# Altium schematic symbol library NX_Module devkit.SchLib: 44 symbols
Pins are listed as number, name and electrical type; pins without a type are passive.

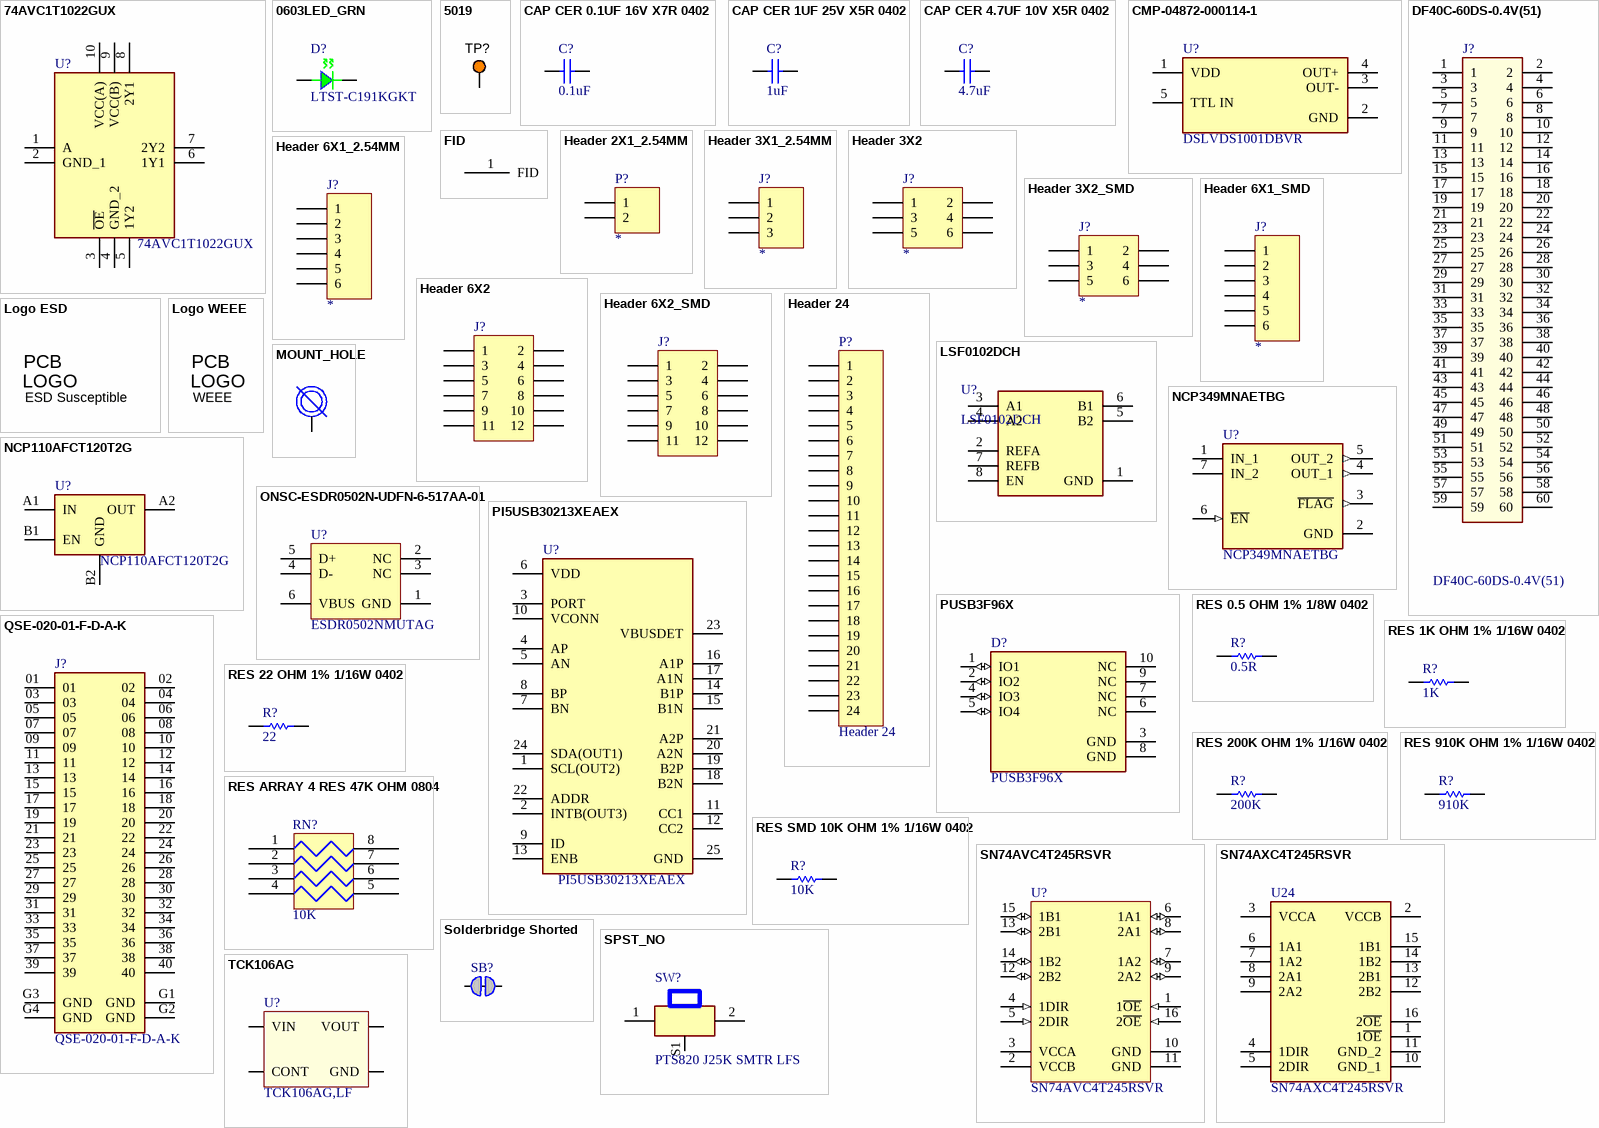
[diagram p0: symbols 74AVC1T1022GUX to TCK106AG]

## 74AVC1T1022GUX
designator U?
Integrated Circuit; Manufacturer_Name: Nexperia; Datasheet Link: https://assets.nexperia.com/documents/data-sheet/74AVC1T1022.pdf; Height: 0.5mm; Manufacturer_Part_Number: 74AVC1T1022GUX; Arrow Part Number: 74AVC1T1022GUX; Arrow Price/Stock: https://www.arrow.com/en/products/74avc1t1022gux/nexperia; Mouser Part Number: 771-74AVC1T1022GUX; Mouser Price/Stock: https://www.mouser.co.uk/ProductDetail/Nexperia/74AVC1T1022GUX?qs=gH1BdSMZm8XHZ1qAC1cnRA%3D%3D
footprint QFN40P140X180X50-10N
pins: 1 A, 2 GND_1, 3 ~{OE}, 4 GND_2, 5 1Y2, 6 1Y1, 7 2Y2, 8 2Y1, 9 VCC(B), 10 VCC(A)

## 0603LED_GRN
designator D?, comment LTST-C191KGKT
LED GREEN CLEAR CHIP 0603 SMD; Manufacturer: Lite-On Inc.; Manufacturer Part Number: LTST-C191GKT; Unit Cost, Qty 1: $0.68; Unit Cost, Qty 500: $0.293; Supplier Part Number 1: 160-1443-1-ND; Value: LTST-C191KGKT; Supplier 1: Digi-Key
footprint LED_0603
pins: 1 A, 2 K

## 5019
designator TP?  (value not drawn)
PC TEST POINT MINIATURE; Manufacturer: Keystone Electronics; Supplier Part Number 1: 36-5019CT-ND; Manufacturer Part Number: 5019; ComponentLink2URL: http://keyelco.com/userAssets/file/M65p56.pdf; Supplier 1: Digi-Key; ComponentLink1Description: Manufacturer URL; ComponentLink1URL: http://www.keyelco.com/; ComponentLink2Description: Datasheet
footprint TP380X203
pins: 1

## CAP CER 0.1UF 16V X7R 0402
designator C?, comment 0.1uF
CAP CER 0.1UF 16V X7R 0402; Manufacturer Part Number: CGA2B1X7R1C104K050BC; Manufacturer: TDK Corporation; Supplier Part Number 1: 445-5613-2-ND; Package: 0402; Height: 0.55mm; Supplier 1: Digi-Key; value: 0.1uF
footprint CAPC1005X55USR (Capacitor, Chip; 1.00 mm L X 0.50 mm W X 0.55 mm H body)
pins: 1, 2

## CAP CER 1UF 25V X5R 0402
designator C?, comment 1uF
CAP CER 1UF 25V X5R 0402; Manufacturer Part Number: GRM155R61E105MA12D; Manufacturer: Murata Electronics; Part #: E-CAP-042; value: 1uF; Supplier Part Number 1: 490-10018-1-ND; Package: 0402; Supplier 1: Digi-Key; Height: 0.55mm; ComponentLink1Description: New link; ComponentLink1URL: *
footprint CAPC1005X55USR (Capacitor, Chip; 1.00 mm L X 0.50 mm W X 0.55 mm H body)
pins: 1, 2

## CAP CER 4.7UF 10V X5R 0402
designator C?, comment 4.7uF
CAP CER 4.7UF 10V X5R 0402; Manufacturer Part Number: C1005X5R1A475M050BC; Manufacturer: TDK Corporation; Supplier Part Number 1: 445-8023-1-ND; Package: 0402; value: 4.7uF; Supplier 1: Digi-Key; Height: 0.55mm; ComponentLink1Description: New link; ComponentLink1URL: *
footprint CAPC1005X55USR (Capacitor, Chip; 1.00 mm L X 0.50 mm W X 0.55 mm H body)
footprint CAPC100X50X60L25N
footprint CAPC1005X55USR (Capacitor, Chip; 1.00 mm L X 0.50 mm W X 0.55 mm H body)
footprint CAPC1005X55USR (Capacitor, Chip; 1.00 mm L X 0.50 mm W X 0.55 mm H body)
footprint CAPC1005X55USR (Capacitor, Chip; 1.00 mm L X 0.50 mm W X 0.55 mm H body)
pins: 1, 2

## CMP-04872-000114-1
designator U?, comment DSLVDS1001DBVR
IC DRIVER 1/0 SOT23-5; RoHS Compliant: No
footprint FP-DBV0005A-IPC_C
footprint FP-DBV0005A-IPC_A
footprint FP-DBV0005A-IPC_B
footprint FP-DBV0005A-MFG
pins: 1 VDD (power), 2 GND (power), 3 OUT-, 4 OUT+, 5 TTL IN (hiz)

## DF40C-60DS-0.4V(51)
designator J?
CONN RCPT 60POS SMD GOLD; Manufacturer: Hirose; Connector Type: Receptacle; Number of Positions: 60; Current Rating: 300mA; Voltage Rating: 30V; Pitch: 0.4mm; Mated Stacking Heights: 1.5mm; Supplier 1: Digi-Key; Supplier Part Number 1: 26-DF40C-60DS-0.4V(51)CT-ND; Manufacturer Part Number: DF40C-60DS-0.4V(51); RoHS: Yes; Category: Headers and Wire Housings; Stock: 11621; Pricing: 1=1.29000, 10=1.08900, 25=1.04440, 50=1.02220, 100=0.97770, 250=0.88880, 500=0.79992, 1000=0.71104, 2500=0.64438 (USD); Mounting Technology: Surface Mount; Contact Plating: Gold; Contact Material: Bronze; Housing Material: Polymer; Package Quantity: 5000; Number of Rows: 2; Packaging: Tape and Reel; Series: DF40; Termination: SMD/SMT; Number of Contacts: 60; Gender: Receptacle; RoHS Compliant: Yes; Lead Free: Lead Free; Reach SVHC Compliant: No; ComponentLink1URL: https://datasheet.ciiva.com/46408/1824826-46408909.pdf?src-supplier=Element14; ComponentLink1Description: https://datasheet.ciiva.com/46408/1824826-46408909.pdf?src-supplier=Element14
footprint DF40C60DS04V51
pins: 1, 2, 3, 4, 5, 6, 7, 8, 9, 10, 11, 12, 13, 14, 15, 16, 17, 18, 19, 20, 21, 22, 23, 24, 25, 26, 27, 28, 29, 30, 31, 32, 33, 34, 35, 36, 37, 38, 39, 40, 41, 42, 43, 44, 45, 46, 47, 48, 49, 50, 51, 52, 53, 54, 55, 56, 57, 58, 59, 60

## FID
designator FID?  (no BOM)
Notes: DNP
footprint FID_040
footprint FID-040
pins: 1 FID

## Header 2X1_2.54MM
designator P?
Conn Header Vert 2POS 2.54MM; Manufacturer: Sullins; Manufacturer Part Number: PRPC002SAAN-RC; Number of Positions: 2; Pitch: 0.1inch; Supplier 1: Digi-Key; Supplier Part Number 1: S1011EC-02-ND; RoHS: Yes; Category: Connectors; Stock: 31528; Pricing: 1=0.08000, 10=0.07300, 25=0.05400, 50=0.04640, 100=0.04490, 250=0.03872, 500=0.03716 (USD); Mounting Technology: Through Hole; Color: Black; Contact Plating: Gold; Package Quantity: 1; Number of Rows: 1; Packaging: Bulk; Termination: Solder; Series: -; Contact Type: Male Pin; Contact Mating Length: 0.23inch; RoHS Compliant: Yes; ComponentLink1URL: https://datasheet.ciiva.com/741/xrxczzzsxxn-rc-st-11635-b-741243.pdf?src-supplier=Digi-Key; ComponentLink1Description: https://datasheet.ciiva.com/741/xrxczzzsxxn-rc-st-11635-b-741243.pdf?src-supplier=Digi-Key; Content: *
footprint HDR2X1_MALE_2.54MM
pins: 1, 2

## Header 3X1_2.54MM
designator J?  (value not drawn)
CONN HEADER .100 SNGL STR 3POS; Manufacturer: Sullins; Manufacturer Part Number: PRPC003SAAN-RC; Number of Positions: 3; Pitch: 0.1inch; Supplier 1: Digi-Key; Supplier Part Number 1: S1011EC-03-ND; RoHS: Yes; Category: Connectors; Stock: 16156; Pricing: 1=0.12000, 10=0.10900, 25=0.08120, 50=0.06960, 100=0.06730, 250=0.05804, 500=0.05572 (USD); Mounting Technology: Through Hole; Color: Black; Contact Plating: Gold; Package Quantity: 1; Number of Rows: 1; Packaging: Bulk; Termination: Solder; Series: -; Contact Type: Male Pin; Contact Mating Length: 0.23inch; RoHS Compliant: Yes; ComponentLink1URL: https://datasheet.ciiva.com/741/xrxczzzsxxn-rc-st-11635-b-741242.pdf?src-supplier=Digi-Key; ComponentLink1Description: https://datasheet.ciiva.com/741/xrxczzzsxxn-rc-st-11635-b-741242.pdf?src-supplier=Digi-Key; Content: *
footprint HDR3X1_MALE_2.54MM
pins: 1, 2, 3

## Header 3X2
designator J?  (value not drawn)
2 Row 6 Position 2.54 mm Straight Unshrouded Male Pin Header; Manufacturer: Amphenol Communications Solutions; Manufacturer Part Number: 67997-206HLF; Supplier 1: Digi-Key; Supplier Part Number 1: 609-3234-ND; RoHS: No; Category: Connectors; Stock: 58561; Pricing: 1=0.46000, 10=0.39400, 100=0.30610, 500=0.26236, 1000=0.21864, 5000=0.18741, 10000=0.17491 (USD); ComponentLink1URL: https://datasheet.octopart.com/67997-206HLF-Areva-datasheet-15888151.pdf?src-supplier=Element14; ComponentLink1Description: https://datasheet.octopart.com/67997-206HLF-Areva-datasheet-15888151.pdf?src-supplier=Element14; ComponentLink2URL: https://datasheet.octopart.com/67997-206HLF-Amphenol-Communications-Solutions-datasheet-10288749.pdf?src-supplier=Newark; ComponentLink2Description: https://datasheet.octopart.com/67997-206HLF-Amphenol-Communications-Solutions-datasheet-10288749.pdf?src-supplier=Newark; ComponentLink3URL: https://datasheet.octopart.com/67997-206HLF-Amphenol-Communications-Solutions-datasheet-36854132.pdf?src-supplier=Electro+Sonic; ComponentLink3Description: https://datasheet.octopart.com/67997-206HLF-Amphenol-Communications-Solutions-datasheet-36854132.pdf?src-supplier=Electro+Sonic; Content: *
footprint HDR3X2_MALE_2.54MM
pins: 1, 2, 3, 4, 5, 6

## Header 3X2_SMD
designator J?  (value not drawn)
Conn Unshrouded Header HDR 6 POS 2.54mm Solder ST Top Entry SMD Tube; Manufacturer: Samtec; Manufacturer Part Number: TSM-103-01-L-DV; Number of Positions: 6; Gender: Male; Max Current Rating: 7A; Max Voltage Rating (AC): 475V; Row Spacing: 0.1inch; Supplier 1: Digi-Key; Supplier Part Number 1: SAM10786-ND; RoHS: Yes; Category: Headers and Wire Housings; Stock: 12257; Pricing: 1=1.17000, 10=0.99000, 100=0.88880, 500=0.72720, 1000=0.64640, 5000=0.56560, 10000=0.53732 (USD); Mounting Technology: Surface Mount; Contact Plating: Gold; Contact Material: Bronze; Color: Black; Housing Color: Black; Housing Material: Polymer; Min Operating Temperature: -55°C; Max Operating Temperature: 125°C; Packaging: Rail/Tube; Number of Rows: 2; Termination: Solder; Number of Contacts: 6; Orientation: Straight; Series: TSM; Contact Type: Male Pin; Package Quantity: 1; Current Rating: 7A; Voltage Rating: 475V; Length: 7.62mm; Pitch: 2.54mm; Depth: 7.36mm; Contact Mating Length: 0.23inch; Radiation Hardening: No; Lead Free: Lead Free; RoHS Compliant: Yes; Reach SVHC Compliant: No; ComponentLink1URL: https://datasheet.ciiva.com/25616/0900766b81157e6c-25616863.pdf?src-supplier=Rs; ComponentLink1Description: https://datasheet.ciiva.com/25616/0900766b81157e6c-25616863.pdf?src-supplier=Rs; ComponentLink2URL: https://datasheet.ciiva.com/739/tsm-1xx-xx-xxx-xx-x-xxx-x-mkt-739577.pdf?src-supplier=Digi-Key; ComponentLink2Description: https://datasheet.ciiva.com/739/tsm-1xx-xx-xxx-xx-x-xxx-x-mkt-739577.pdf?src-supplier=Digi-Key; Content: *
footprint HDR3X2_MALE_2.54MM_SAMTEC-A-TSM-103
pins: 1, 2, 3, 4, 5, 6

## Header 6X1_2.54MM
designator J?  (value not drawn)
Single Row 6 Position 2.54 mm Pitch Straight Unshrouded Male Pin Header; Manufacturer: Amphenol Communications Solutions; Manufacturer Part Number: 68000-406HLF; Supplier 1: Digi-Key; Supplier Part Number 1: 609-3263-ND; RoHS: No; Category: Connectors; Stock: 36469; Pricing: 1=0.31000, 10=0.26700, 100=0.20760, 500=0.17796, 1000=0.14829, 5000=0.12711, 10000=0.11864 (USD); ComponentLink1URL: https://datasheet.octopart.com/68000-406HLF-Areva-datasheet-10088795.pdf?src-supplier=Farnell; ComponentLink1Description: https://datasheet.octopart.com/68000-406HLF-Areva-datasheet-10088795.pdf?src-supplier=Farnell; ComponentLink2URL: https://datasheet.octopart.com/68000-406HLF-Amphenol-Communications-Solutions-datasheet-100449246.pdf?src-supplier=Future+Electronics; ComponentLink2Description: https://datasheet.octopart.com/68000-406HLF-Amphenol-Communications-Solutions-datasheet-100449246.pdf?src-supplier=Future+Electronics; ComponentLink3URL: https://datasheet.octopart.com/68000-406HLF-FCI-datasheet-41232361.pdf?src-supplier=Newark; ComponentLink3Description: https://datasheet.octopart.com/68000-406HLF-FCI-datasheet-41232361.pdf?src-supplier=Newark; ComponentLink4URL: https://datasheet.octopart.com/68000-406HLF-Amphenol-Communications-Solutions-datasheet-154727322.pdf?src-supplier=Electro+Sonic; ComponentLink4Description: https://datasheet.octopart.com/68000-406HLF-Amphenol-Communications-Solutions-datasheet-154727322.pdf?src-supplier=Electro+Sonic; ComponentLink5URL: https://datasheet.octopart.com/68000-406HLF-Amphenol-Communications-Solutions-datasheet-168215121.pdf?src-supplier=TME; ComponentLink5Description: https://datasheet.octopart.com/68000-406HLF-Amphenol-Communications-Solutions-datasheet-168215121.pdf?src-supplier=TME; Content: *
footprint HDR6X1_MALE_2.54MM
pins: 1, 2, 3, 4, 5, 6

## Header 6X1_SMD
designator J?  (value not drawn)
SMT Vertical Pin Header WR-PHD, Pitch 2.54 mm, Single Row, 6 pins; Manufacturer: Wurth Electronics; Manufacturer Part Number: 61000618221; Number of Positions: 6; Gender: Male; Voltage Rating: 250V; Pitch: 0.1inch; Supplier 1: Digi-Key; Supplier Part Number 1: 732-5366-5-ND; RoHS: Yes; Category: Connectors; Stock: 3629; Pricing: 1=1.45000, 10=1.22700, 41=1.02293, 82=0.85195, 164=0.77500, 328=0.70500 (USD); Mounting Technology: Surface Mount; Contact Plating: Gold; Contact Material: Copper Alloy,Copper; Color: Black; Contact Shape: Square; Contact Finish - Mating: GOLD; Insulation Material: Nylon; Insulation Color: Black; Min Operating Temperature: -40°C; Max Operating Temperature: 125°C; Number of Rows: 1; Packaging: Rail/Tube; Termination: Solder; Number of Contacts: 6; Connector Type: Header; Fastening Type: Pull; Series: WR-PHD; Contact Type: Male Pin; Contact Mating Length: 0.236inch; Flammability Rating: UL94 V-0; Reach SVHC Compliant: Unknown; ComponentLink1URL: https://katalog.we-online.de/em/datasheet/6100xx18221.pdf?src-supplier=Digi-Key; ComponentLink1Description: https://katalog.we-online.de/em/datasheet/6100xx18221.pdf?src-supplier=Digi-Key; ComponentLink2URL: https://datasheet.octopart.com/61000618221-W%C3%BCrth-Elektronik-datasheet-21154826.pdf?src-supplier=Element14; ComponentLink2Description: https://datasheet.octopart.com/61000618221-W%C3%BCrth-Elektronik-datasheet-21154826.pdf?src-supplier=Element14; Content: *
footprint HDR1X6_SMD_WE_61000
pins: 1, 2, 3, 4, 5, 6

## Header 6X2
designator J?  (value not drawn)
Conn, Header, 12POS, 2ROW, 2.54MM, Th;; Manufacturer: Amphenol Communications Solutions; Manufacturer Part Number: 67997-212HLF; Supplier 1: Digi-Key; Supplier Part Number 1: 609-3237-ND; RoHS: No; Category: Connectors; Stock: 4908; Pricing: 1=1.04000, 10=0.87900, 100=0.78950, 500=0.64594, 1000=0.57416, 5000=0.50239, 10000=0.47727 (USD); ComponentLink1URL: https://datasheet.octopart.com/67997-212HLF-Amphenol-ICC---FCI-datasheet-10288749.pdf?src-supplier=Farnell; ComponentLink1Description: https://datasheet.octopart.com/67997-212HLF-Amphenol-ICC---FCI-datasheet-10288749.pdf?src-supplier=Farnell
footprint HDR6X2_MALE_2.54MM
pins: 1, 2, 3, 4, 5, 6, 7, 8, 9, 10, 11, 12

## Header 6X2_SMD
designator J?  (value not drawn)
Conn Unshrouded Header HDR 12 POS 2.54mm Solder ST Top Entry SMD Tube; Manufacturer: Samtec; Manufacturer Part Number: TSM-106-01-L-DV; Number of Contacts: 12; Gender: Male; Pitch: 0.1inch; Supplier 1: Digi-Key; Supplier Part Number 1: SAM10803-ND; RoHS: Yes; Category: Headers and Wire Housings; Stock: 6386; Pricing: 1=2.21000, 10=1.92300, 100=1.71800, 500=1.43168, 1000=1.22715, 5000=1.08807 (USD); Mounting Technology: Surface Mount; Contact Plating: Gold; Contact Material: Bronze; Contact Shape: Square; Contact Finish - Mating: GOLD; Insulation Material: Polymer; Insulation Color: Black; Color: Black; Min Operating Temperature: -55°C; Max Operating Temperature: 125°C; Number of Rows: 2; Packaging: Rail/Tube; Termination: Solder; Number of Positions: 12; Connector Type: Header; Series: TSM; Contact Type: Male Pin; Fastening Type: Pull; Package Quantity: 1; Row Spacing: 0.1inch; Contact Mating Length: 0.23inch; Radiation Hardening: No; Lead Free: Lead Free; RoHS Compliant: Yes; Flammability Rating: UL94 V-0; Reach SVHC Compliant: No; ComponentLink1URL: https://datasheet.ciiva.com/739/tsm-1xx-xx-xxx-xx-x-xxx-x-mkt-739673.pdf?src-supplier=Digi-Key; ComponentLink1Description: https://datasheet.ciiva.com/739/tsm-1xx-xx-xxx-xx-x-xxx-x-mkt-739673.pdf?src-supplier=Digi-Key
footprint HDR6X2_MALE_2.54MM_SAMTEC-A-TSM-106
pins: 1, 2, 3, 4, 5, 6, 7, 8, 9, 10, 11, 12

## Header 24
designator P?
Header, 24-Pin; LatestRevisionDate: 17-Jul-2002; LatestRevisionNote: Re-released for DXP Platform.; Publisher: Altium Limited
footprint HDR1X24 (Connector; Header; 24 Position)
signal-integrity model Connector
pins: 1, 2, 3, 4, 5, 6, 7, 8, 9, 10, 11, 12, 13, 14, 15, 16, 17, 18, 19, 20, 21, 22, 23, 24

## Logo ESD
designator Logo?, comment ESD Susceptible  (no BOM)
ESD Susceptible Symbol; Library Reference: Logo; SymbolCreator: a0412235; Lib Reference: ESD_Susceptible; Publisher: Texas Instruments; SymbolVersion: 2011-08-22; Published: 2009-03-03; LatestRevisionDate: 2017-07-06; PartNumber: ESD Susceptible
footprint ESD_Overlay_Large
footprint ESD_Overlay_Small
footprint ESD_Overlay_Medium
text: PCB; LOGO

## Logo WEEE
designator Logo?, comment WEEE  (no BOM)
WEEE logo; Library Reference: WEEE logo; Lib Reference: WEEE logo; PartNumber: WEEE logo
footprint WEEE_Minimum
text: PCB; LOGO

## LSF0102DCH
designator U?
LSF0102 - 2-bit bidirectional multi-voltage level translator; open-drain; push-pull; Manufacturer: Nexperia; Supplier 1: Digi-Key; Supplier Part Number 1: 1727-LSF0102DCHCT-ND; Manufacturer Part Number: LSF0102DCH; RoHS: No; Stock: 17270; Pricing: 1=0.66000, 10=0.58200, 25=0.54680, 100=0.44630, 250=0.41452, 500=0.35276, 1000=0.28221 (USD)
footprint VSSOP8_SOT765-1_NEX
pins: 1 GND, 2 REFA, 3 A1, 4 A2, 5 B2, 6 B1, 7 REFB, 8 EN

## MOUNT_HOLE
designator BH?, comment STANDOFF M2.5  (value not drawn)
ROUND STANDOFF M2X0.4 STEEL 1MM; Manufacturer Part Number: 9774010243R; Manufacturer: Würth Elektronik; Supplier Part Number 1: 732-7065-2-ND; Supplier 1: Digi-Key
footprint WE_9774010243R
pins: 1

## NCP110AFCT120T2G
designator U?
LDO Regulator, 200 mA, Low Vin, Ultra-High PSRR 1.2V, Active Discharge; Manufacturer: ON Semiconductor; Supplier 1: Digi-Key; Manufacturer Part Number: NCP110AFCT120T2G; RoHS: Yes; Category: Voltage Regulators - Linear; Stock 1: 4650; Pricing 1: 1=0.41000, 10=0.33100, 25=0.30280, 100=0.22520, 250=0.20412, 500=0.16892, 1000=0.12669, 2500=0.11613 (USD); RoHS Compliant: Yes; Supplier Part Number 1: 488-NCP110AFCT120T2GCT-ND
footprint WLCSP4_P6XP6_ONS
pins: A1 IN, A2 OUT, B1 EN, B2 GND

## NCP349MNAETBG
designator U?
IC CTLR OVP 28V W/NMOS 6-DFN; Manufacturer: ON Semiconductor; Min Supply Voltage: 1.2V; Operating Supply Current: 70uA; Height: 0.95mm; Supplier 1: Digi-Key; Manufacturer Part Number: NCP349MNAETBG; RoHS: Yes; Category: Power Management ICs; Stock 1: 1255; Pricing 1: 1=0.96000, 10=0.84700, 25=0.79520, 100=0.64900, 250=0.60284, 500=0.51304, 1000=0.41043 (USD); Mount: Surface Mount; Case/Package: DFN; Number of Pins: 6; Weight: 0.000744oz; Min Operating Temperature: -40°C; Max Operating Temperature: 85°C; Packaging: Tape and Reel; Package Quantity: 3000; Max Supply Voltage: 28V; Series: -; Length: 2mm; Width: 1.6mm; Reach SVHC Compliant: Yes; Lead Free: Lead Free; Halogen Free: Halogen Free; RoHS Compliant: Yes; ComponentLink1URL: https://datasheet.ciiva.com/1967/ncp349-d-1967888.pdf?src-supplier=Avnet; ComponentLink1Description: https://datasheet.ciiva.com/1967/ncp349-d-1967888.pdf?src-supplier=Avnet; ComponentLink2URL: https://datasheet.ciiva.com/6602/ncp349-d-6602421.pdf?src-supplier=Digi-Key; ComponentLink2Description: https://datasheet.ciiva.com/6602/ncp349-d-6602421.pdf?src-supplier=Digi-Key; ComponentLink3URL: https://datasheet.ciiva.com/6602/ncp349-d-6602425.pdf?src-supplier=Digi-Key; ComponentLink3Description: https://datasheet.ciiva.com/6602/ncp349-d-6602425.pdf?src-supplier=Digi-Key; Supplier Part Number 1: NCP349MNAETBGOSCT-ND
footprint SON50P200X160X100-7N-D
pins: 1 IN_1 (power), 2 GND (power), 3 ~{FLAG} (out), 4 OUT_1 (out), 5 OUT_2 (out), 6 ~{EN} (in), 7 IN_2 (power)

## ONSC-ESDR0502N-UDFN-6-517AA-01
designator U?, comment ESDR0502NMUTAG
TVS DIODE 5.5VWM 6UDFN; Manufacturer: ON Semiconductor; ComponentLink2URL: http://www.onsemi.cn/pub_link/Collateral/ESDR0502N-D.PDF; ComponentLink3URL: http://www.onsemi.com/pub_link/Collateral/517AA.PDF; ComponentLink1Description: Manufacturer URL; ComponentLink2Description: Datasheet; ComponentLink3Description: Package Specification; ComponentLink1URL: http://www.onsemi.com/; Supplier Part Number 1: 863-ESDR0502NMUTAG; Manufacturer Part Number: ESDR0502NMUTAG; Supplier 1: Mouser
footprint ONSC-UDFN-6-517AA-01_V
pins: 1 GND (power), 2 NC, 3 NC, 4 D-, 5 D+, 6 VBUS (power)

## PI5USB30213XEAEX
designator U?
USB Power SW DIST Single 2.7V to 5.5V 1.5A/3A 24-Pin TQFN T/R; Manufacturer: Diodes; Supplier 1: Digi-Key; Supplier Part Number 1: PI5USB30213XEAEXCT-ND; Manufacturer Part Number: PI5USB30213XEAEX; RoHS: Yes; Category: Power Management ICs; Stock: 3456; Pricing: 1=1.92000, 10=1.72200, 25=1.62480, 100=1.38450, 250=1.30000, 500=1.13750, 1000=0.94250 (USD); RoHS Compliant: Yes; ComponentLink1URL: https://media.digikey.com/pdf/Data%20Sheets/Pericom%20PDFs/PI5USB30213_Web.pdf?src-supplier=Digi-Key; ComponentLink1Description: https://media.digikey.com/pdf/Data%20Sheets/Pericom%20PDFs/PI5USB30213_Web.pdf?src-supplier=Digi-Key
footprint QFN40P400X200X50-25N
pins: 1 SCL(OUT2), 2 INTB(OUT3), 3 PORT, 4 AP, 5 AN, 6 VDD, 7 BN, 8 BP, 9 ID, 10 VCONN, 11 CC1, 12 CC2, 13 ENB, 14 B1P, 15 B1N, 16 A1P, 17 A1N, 18 B2N, 19 B2P, 20 A2N, 21 A2P, 22 ADDR, 23 VBUSDET, 24 SDA(OUT1), 25 GND

## PUSB3F96X
designator D?
TVS DIODE 5.5VWM 4.6VC DFN2510A; Manufacturer: Nexperia USA Inc.; Interface: USB; Manufacturer Part Number: PUSB3F96X; Supplier 1: Digi-Key; Supplier Part Number 1: 1727-2030-1-ND
footprint DFN2510A-10
pins: 1 IO1 (io), 2 IO2 (io), 3 GND (power), 4 IO3 (io), 5 IO4 (io), 6 NC, 7 NC, 8 GND (power), 9 NC, 10 NC

## QSE-020-01-F-D-A-K
designator J?
Q Strip® High-Speed Ground Plane Header, 0.80mm Pitch; Manufacturer: Samtec; Manufacturer Part Number: QTE-020-01-F-D-A; Number of Positions: 40; Gender: Male; Pitch: 0.031inch; Mated Stacking Heights: 5mm; Supplier 1: Digi-Key; Supplier Part Number 1: SAM8846-ND; RoHS: Yes; Category: Board to Board Connectors; Stock: 1329; Pricing: 1=9.48000, 10=8.53000, 25=8.03560, 40=7.82950, 96=7.62344, 288=6.79931, 480=6.38725, 960=5.64550 (USD); Mounting Technology: Surface Mount; Contact Plating: Gold; Number of Rows: 2; Packaging: Tray; Termination: Solder; Number of Contacts: 40; Series: QStrip® QTE; Package Quantity: 1; RoHS Compliant: Yes; ComponentLink1URL: https://datasheet.ciiva.com/6924/qte-xxx-xx-x-d-xxx-mkt-6924765.pdf?src-supplier=Digi-Key; ComponentLink1Description: https://datasheet.ciiva.com/6924/qte-xxx-xx-x-d-xxx-mkt-6924765.pdf?src-supplier=Digi-Key
footprint SAMTEC_QSE-020-01-XXX-D-A-L
pins: 01, 02, 03, 04, 05, 06, 07, 08, 09, 10, 11, 12, 13, 14, 15, 16, 17, 18, 19, 20, 21, 22, 23, 24, 25, 26, 27, 28, 29, 30, 31, 32, 33, 34, 35, 36, 37, 38, 39, 40, G1 GND (power), G2 GND (power), G3 GND (power), G4 GND (power)

## RES 0.5 OHM 1% 1/8W 0402
designator R?, comment 0.5R
RES 0.5 OHM 1% 1/8W 0402; Manufacturer Part Number: CSR0402FKR500; Manufacturer: Stackpole Electronics Inc; Package: 0402; Supplier Part Number 1: CSR0402FKR500CT-ND; value: 0.5R; Height: 0.43mm; Supplier 1: Digi-Key
footprint RESC1005X40USR (Resistor, Chip; 1.00 mm L X 0.50 mm W X 0.40 mm H body)
pins: 1, 2

## RES 1K OHM 1% 1/16W 0402
designator R?, comment 1K
RES SMD 1K OHM 1% 1/16W 0402; Manufacturer: YAGEO; Manufacturer Part Number: RC0402FR-071KL; Supplier Part Number 1: 311-1.00KLRCT-ND; Package: 0402; Height: 0.4mm; Supplier 1: Digi-Key; value: 1K
footprint RESC1005X40USR (Resistor, Chip; 1.00 mm L X 0.50 mm W X 0.40 mm H body)
pins: 1, 2

## RES 22 OHM 1% 1/16W 0402
designator R?, comment 22
RES 22 OHM 1% 1/16W 0402; Manufacturer: Yageo; Manufacturer Part Number: RC0402FR-0722RL; Supplier Part Number 1: 311-22.0LRCT-ND; Package: 0402; Height: 0.40mm; Supplier 1: Digi-Key; value: 22
footprint RESC1005X40USR (Resistor, Chip; 1.00 mm L X 0.50 mm W X 0.40 mm H body)
pins: 1, 2

## RES 200K OHM 1% 1/16W 0402
designator R?, comment 200K
RES 200K OHM 1% 1/16W 0402; Manufacturer: Stackpole Electronics Inc; Manufacturer Part Number: RMCF0402FT200K; Supplier Part Number 1: RMCF0402FT200KTR-ND; Package: 0402; Height: 0.4mm; Supplier 1: Digi-Key; value: 200K
footprint RESC1005X40USR (Resistor, Chip; 1.00 mm L X 0.50 mm W X 0.40 mm H body)
pins: 1, 2

## RES 910K OHM 1% 1/16W 0402
designator R?, comment 910K
RES 910K OHM 1% 1/16W 0402; Manufacturer: YAGEO; Manufacturer Part Number: RC0402FR-07910KL; Supplier Part Number 1: YAG3257CT-ND; Package: 0402; Height: 0.4mm; Supplier 1: Digi-Key; value: 910K
footprint RESC0603X26N
footprint RESC0603X26N
footprint RESC1005X40USR (Resistor, Chip; 1.00 mm L X 0.50 mm W X 0.40 mm H body)
pins: 1, 2

## RES ARRAY 4 RES 47K OHM 0804
designator RN?, comment 10K
Res Thick Film Array 10K Ohm 5% ±200ppm/°C ISOL 8-Pin 0804(4 X 0402) Convex SMD Automotive T/R; Manufacturer: Panasonic; Manufacturer Part Number: EXB-28V103JX; Number of Resistors: 4; Power Dissipation: 63mW; Voltage Rating: 50V; Circuit Type: Isolated; Power Per Element: 62.5mW; Number of Contacts: 8; Voltage Rating (DC): 100V; Supplier 1: Digi-Key; Supplier Part Number 1: Y7103CT-ND; RoHS: Yes; Category: Resistor Arrays; Stock: 1570078; Pricing: 1=0.10000, 10=0.08100, 25=0.05640, 50=0.04380, 100=0.03130, 250=0.02444, 500=0.01942, 1000=0.01378, 5000=0.01065 (USD); Mounting Technology: Surface Mount; Case/Package: 0804; Pins: 8; Case Code (Metric): 1005; Case Code (Imperial): 0402; Min Operating Temperature: -55°C; Max Operating Temperature: 125°C; Value: 10K; Packaging: Tape and Reel; Package Quantity: 1; Temperature Coefficient: 200ppm/°C; Series: EXB; Tolerance: 5%; Number of Elements: 4; Termination: Convex; Resistance Tolerance: 5%; Technology: THICK FILM; Length: 2mm; Width: 1mm; Height: 0.35mm; Depth: 1mm; Terminal Pitch: 0.5mm; Radiation Hardening: No; Lead Free: Lead Free; RoHS Compliant: Yes; Military Standard: Not; Reach SVHC Compliant: Unknown; ComponentLink1URL: https://datasheet.ciiva.com/46387/1480003-46387949.pdf?src-supplier=Element14; ComponentLink1Description: https://datasheet.ciiva.com/46387/1480003-46387949.pdf?src-supplier=Element14; ComponentLink2URL: https://datasheet.ciiva.com/46376/1480003-46376265.pdf?src-supplier=Element14; ComponentLink2Description: https://datasheet.ciiva.com/46376/1480003-46376265.pdf?src-supplier=Element14; ComponentLink3URL: https://datasheet.ciiva.com/28418/1790599-28418558.pdf?src-supplier=Element14; ComponentLink3Description: https://datasheet.ciiva.com/28418/1790599-28418558.pdf?src-supplier=Element14; ComponentLink4URL: https://datasheet.ciiva.com/28636/1790599-28636885.pdf?src-supplier=Element14; ComponentLink4Description: https://datasheet.ciiva.com/28636/1790599-28636885.pdf?src-supplier=Element14; ComponentLink5URL: https://datasheet.ciiva.com/30209/aoc0000ce1-30209125.pdf?src-supplier=Onlinecomponents.com; ComponentLink5Description: https://datasheet.ciiva.com/30209/aoc0000ce1-30209125.pdf?src-supplier=Onlinecomponents.com
footprint RESCAXS50P100X200X45-8NA (2 Side, Convex)
pins: 1, 2, 3, 4, 5, 6, 7, 8

## RES SMD 10K OHM 1% 1/16W 0402
designator R?, comment 10K
RES SMD 10K OHM 1% 1/16W 0402; Manufacturer: Samsung Electro-Mechanics; Manufacturer Part Number: RC1005F103CS; Supplier Part Number 1: 1276-3431-2-ND; Package: 0402; Height: 0.4mm; Supplier 1: Digi-Key; value: 10K
footprint RESC0603X26N
footprint RESC0603X26N
footprint RESC1005X40USR (Resistor, Chip; 1.00 mm L X 0.50 mm W X 0.40 mm H body)
pins: 1, 2

## SN74AVC4T245RSVR
designator U?
IC BUS TRANSCVR 4BIT 16-UQFN; Manufacturer: Texas Instruments; Number of Bits: 4; Propagation Delay: 2.9ns; Max Supply Voltage: 3.6V; Min Supply Voltage: 1.2V; Data Rate: 380Mbps; Logic Function: Transceiver,Translator; Turn-On Delay Time: 10.3ns; Low Level Output Current: 12mA; High Level Output Current: -12mA; Direction: Bidirectional; Polarity: Non-Inverting; Number of Elements: 2; Output Type: 3-STATE; Output Current: 50mA; Quiescent Current: 80uA; Supplier 1: Digi-Key; Supplier Part Number 1: 296-24366-1-ND; Manufacturer Part Number: SN74AVC4T245RSVR; RoHS: Yes; Category: Buffers, Drivers and Transceivers; Stock: 65228; Pricing: 1=1.56000, 10=1.39500, 25=1.32360, 100=1.08730, 250=1.01644, 500=0.89824, 1000=0.70914 (USD); Mounting Technology: Surface Mount; Pins: 16; Weight: 0.001443oz; Min Operating Temperature: -40°C; Max Operating Temperature: 85°C; Packaging: Tape and Reel; Series: 74AVC; Package Quantity: 3000; Number of Channels: 4; Channel Type: Bidirectional; Number of Circuits: 2; Technology: CMOS; Number of Inputs: 4; Length: 2.65mm; Width: 1.85mm; Height: 0.5mm; Radiation Hardening: No; Lead Free: Lead Free; RoHS Compliant: Yes; Reach SVHC Compliant: No; ComponentLink1URL: https://datasheet.ciiva.com/15086/getdatasheetpartid-241542-15086414.pdf?src-supplier=Verical; ComponentLink1Description: https://datasheet.ciiva.com/15086/getdatasheetpartid-241542-15086414.pdf?src-supplier=Verical; ComponentLink2URL: https://datasheet.ciiva.com/1899/sn74avc4t245-1899380.pdf?src-supplier=Digi-Key; ComponentLink2Description: https://datasheet.ciiva.com/1899/sn74avc4t245-1899380.pdf?src-supplier=Digi-Key; ComponentLink3URL: https://datasheet.ciiva.com/1899/sn74avc4t245-1899381.pdf?src-supplier=Digi-Key; ComponentLink3Description: https://datasheet.ciiva.com/1899/sn74avc4t245-1899381.pdf?src-supplier=Digi-Key; ComponentLink4URL: https://datasheet.ciiva.com/1899/sn74avc4t245-1899382.pdf?src-supplier=Digi-Key; ComponentLink4Description: https://datasheet.ciiva.com/1899/sn74avc4t245-1899382.pdf?src-supplier=Digi-Key; ComponentLink5URL: https://datasheet.ciiva.com/46395/1863606-46395877.pdf?src-supplier=Element14; ComponentLink5Description: https://datasheet.ciiva.com/46395/1863606-46395877.pdf?src-supplier=Element14; ComponentLink6URL: https://datasheet.ciiva.com/46395/1863606-46395878.pdf?src-supplier=Element14; ComponentLink6Description: https://datasheet.ciiva.com/46395/1863606-46395878.pdf?src-supplier=Element14
footprint QFN40P260X180X55-16N
pins: 1 1~{OE} (in) "3-state output-mode enables. Pull O\E\ high to place ‘1’ outputs in 3-state mode. Referenced to VCCA.", 2 VCCB (power) "B-port power supply voltage. 1.2 V =< VCCB =< 3.6 V", 3 VCCA (power) "A-port power supply voltage. 1.2 V =< VCCA =< 3.6 V", 4 1DIR (in) "Direction-control input for ‘1’ ports", 5 2DIR (in) "Direction-control input for ‘2’ ports", 6 1A1 (io) "Input/output 1A1. Referenced to VCCA", 7 1A2 (io) "Input/output 1A2. Referenced to VCCA.", 8 2A1 (io) "Input/output 1B1. Referenced to VCCB.", 9 2A2 (io) "Input/output 1B2. Referenced to VCCB", 10 GND (power) "Ground", 11 GND (power) "Ground", 12 2B2 (io) "Input/output 2B2. Referenced to VCCB.", 13 2B1 (io) "Input/output 2B1. Referenced to VCCB", 14 1B2 (io) "Input/output 1B2. Referenced to VCCB.", 15 1B1 (io) "Input/output 1B1. Referenced to VCCB", 16 2~{OE} (in) "3-state output-mode enables. Pull O\E\ high to place ‘2’ outputs in 3-state mode. Referenced to VCCA."

## SN74AXC4T245RSVR
designator U24
4-Bit Bus Transceiver with Configurable Voltage Translation and Tri-State Outputs 16-Pin UQFN; Manufacturer: Texas Instruments; Supplier 1: Digi-Key; Supplier Part Number 1: 296-53432-1-ND; Manufacturer Part Number: SN74AXC4T245RSVR; RoHS: Yes; Category: Buffers, Drivers and Transceivers; Stock: 6479; Pricing: 1=1.48000, 10=1.32500, 25=1.25760, 100=1.03290, 250=0.96552, 500=0.85326, 1000=0.67362 (USD); ComponentLink1URL: http://www.ti.com/general/docs/suppproductinfo.tsp?distId=10&amp;gotoUrl=http%3A%2F%2Fwww.ti.com%2Flit%2Fgpn%2Fsn74axc4t245&src-supplier=Digi-Key; ComponentLink1Description: http://www.ti.com/general/docs/suppproductinfo.tsp?distId=10&amp;gotoUrl=http%3A%2F%2Fwww.ti.com%2Flit%2Fgpn%2Fsn74axc4t245&src-supplier=Digi-Key
footprint QFN40P260X180X55-16N
pins: 1 1~{OE}, 2 VCCB, 3 VCCA, 4 1DIR, 5 2DIR, 6 1A1, 7 1A2, 8 2A1, 9 2A2, 10 GND_1, 11 GND_2, 12 2B2, 13 2B1, 14 1B2, 15 1B1, 16 2~{OE}

## Solderbridge Shorted
designator SB?, comment Solderbridge  (value not drawn)  (net tie, no BOM)
Shorted Solderbridge; Part Number: Solderbridge Shorted; Artikkelnr Noca: N.A.; Manufacturer: *; Manufacturer Part Number: *; Datasheet: *; LatestRevisionDate: 2012-08-07; Pin Count: 2; Publisher: Nordic Semiconductor; Published: 2012-08-07; Value: Solderbridge; Note: *; Supplier: *; Supplier part number: *; 2nd source Supplier: *; 2nd source part number: *; Footprint Doc: Solderbridge_Shorted; Artikkelnr Simpro: N.A.
footprint Solderbridge_Shorted
pins: 1 0, 2 1

## SPST_NO
designator SW?, comment PTS820 J25K SMTR LFS
SWITCH TACTILE SPST-NO 0.05A 12V; Manufacturer: C&K; Supplier Part Number 1: CKN10897CT-ND; Supplier 1: Digi-Key; Manufacturer Part Number: PTS820 J25K SMTR LFS
footprint PTS820 J15M SMTR LFS (SWITCH TACTILE SPST-NO 0.05A 12V)
footprint PTS820 J15M SMTR LFS (SWITCH TACTILE SPST-NO 0.05A 12V)
footprint PTS820J25MSMTRLFS
pins: 1, 2, S1 GND

## TCK106AG
designator U?, comment TCK106AG,LF
IC PWR SWITCH P-CHAN 1:1 4WCSPD; Vendor: Toshiba; Built_By: EMA_UL_Team; Number_devices_in_Package: 1; 1pc cost: $0.47; 100pc cost: $0.2349; Manufacturer Part Number: TCK106AG,LF; Copyright: Copyright (C) 2018 Accelerated Designs. All rights reserved; RefDes: RefDes; Type: DEV; Value: Value; Source_Package: TCK106AG; Supplier 1: Digi-Key; Manufacturer: Toshiba; Height: 0.55mm; Supplier Part Number 1: TCK106AGLFCT-ND
footprint WCSP4D
pins: A1 VOUT, A2 VIN, B1 GND, B2 CONT

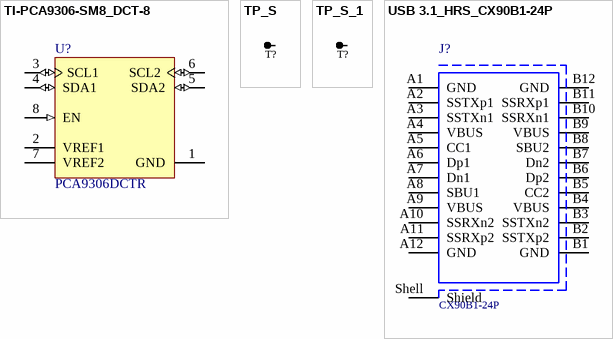
[diagram p1: symbols TI-PCA9306-SM8_DCT-8 to USB 3.1_HRS_CX90B1-24P]

## TI-PCA9306-SM8_DCT-8
designator U?, comment PCA9306DCTR
Dual Bi-Directional I2C-Bus and SMBus Voltage Level-Translator, 0 to 5.5 V, -40 to 85 degC, 8-pin SM8 (DCT), Green (RoHS & no Sb/Br); Manufacturer: Texas Instruments; Propagation Delay: 900ps; Max Supply Voltage: 5V; Min Supply Voltage: 0V; Number of Channels: 2; Turn-On Delay Time: 1.2ns; Output Type: I2C; Output Current: 64mA; Channel Type: Bidirectional; Number of Circuits: 1; Supplier 1: Digi-Key; Supplier Part Number 1: 296-18509-1-ND; Manufacturer Part Number: PCA9306DCTR; RoHS: Yes; Category: Logic ICs; Stock: 31441; Pricing: 1=0.67000, 10=0.59100, 25=0.55480, 100=0.45290, 250=0.42072, 500=0.35804, 1000=0.28644 (USD); Case/Package: SSOP; Pins: 8; Weight: 0.000825oz; Min Operating Temperature: -40°C; Max Operating Temperature: 85°C; Packaging: Tape and Reel; Number of Outputs: 2; Logic Function: Translator; Series: -; Package Quantity: 1; Number of Bits: 2; Number of Inputs: 2; Lead Free: Lead Free; RoHS Compliant: Yes; Reach SVHC Compliant: No; ComponentLink1URL: https://datasheet.ciiva.com/4834/scps113j-102472-4834081.pdf?src-supplier=Mouser; ComponentLink1Description: https://datasheet.ciiva.com/4834/scps113j-102472-4834081.pdf?src-supplier=Mouser; ComponentLink2URL: https://datasheet.ciiva.com/1899/pca9306-1899333.pdf?src-supplier=Digi-Key; ComponentLink2Description: https://datasheet.ciiva.com/1899/pca9306-1899333.pdf?src-supplier=Digi-Key; ComponentLink3URL: https://datasheet.ciiva.com/1899/pca9306-1899332.pdf?src-supplier=Digi-Key; ComponentLink3Description: https://datasheet.ciiva.com/1899/pca9306-1899332.pdf?src-supplier=Digi-Key; ComponentLink4URL: https://datasheet.ciiva.com/1899/pca9306-1899334.pdf?src-supplier=Digi-Key; ComponentLink4Description: https://datasheet.ciiva.com/1899/pca9306-1899334.pdf?src-supplier=Digi-Key
footprint SOP65P400X130-8N
footprint DCT0008A_M (SOP, 8-Leads, Body 2.9x3.2mm, Pitch 0.65mm, IPC Low Density)
footprint DCT0008A_N (SOP, 8-Leads, Body 2.9x3.2mm, Pitch 0.65mm, IPC Medium Density)
pins: 1 GND (power) "Ground, 0 V", 2 VREF1 (power) "Low-voltage-side reference supply voltage for SCL1 and SDA1", 3 SCL1 (io) "Serial clock, low-voltage side", 4 SDA1 (io) "Serial data, low-voltage side", 5 SDA2 (io) "Serial data, high-voltage side", 6 SCL2 (io) "Serial clock, high-voltage side", 7 VREF2 (power) "High-voltage-side reference supply voltage for SCL2 and SDA2", 8 EN (in) "Switch enable input"

## TP_S
designator T?  (no BOM)
test point
footprint TP 1mm (1 mm Probe Pad)
pins: 1
2 alternate drawings of the same symbol

## TP_S_1
designator T?, comment TP_S  (value not drawn)  (no BOM)
test point
footprint TP 1mm (1 mm Probe Pad)
pins: 1
2 alternate drawings of the same symbol

## USB 3.1_HRS_CX90B1-24P
designator J?, comment CX90B1-24P
CONN RCP USB3.1 TYPEC 24P SMD RA; Manufacturer: Hirose Electric Co Ltd; Number of Contacts: 24; Supplier 1: Digi-Key; Supplier Part Number 1: H125778CT-ND; Manufacturer Part Number: CX90B1-24P; ComponentLink1URL: https://www.mouser.com/ds/2/445/632723x00011-782157.pdf?src-supplier=Mouser; ComponentLink1Description: https://www.mouser.com/ds/2/445/632723x00011-782157.pdf?src-supplier=Mouser; ComponentLink2URL: https://katalog.we-online.de/em/datasheet/632723x00011.pdf?src-supplier=Digi-Key; ComponentLink2Description: https://katalog.we-online.de/em/datasheet/632723x00011.pdf?src-supplier=Digi-Key
footprint HRS_CX90B1-24P
pins: A1 GND, A2 SSTXp1, A3 SSTXn1, A4 VBUS, A5 CC1, A6 Dp1, A7 Dn1, A8 SBU1, A9 VBUS, A10 SSRXn2, A11 SSRXp2, A12 GND, B1 GND, B2 SSTXp2, B3 SSTXn2, B4 VBUS, B5 CC2, B6 Dp2, B7 Dn2, B8 SBU2, B9 VBUS, B10 SSRXn1, B11 SSRXp1, B12 GND, Shell Shield